# Altium footprint library ebf_f407 motor dev board_PCB封装_AD格式.PcbLib: 52 footprints (part 1 of 4)
Each footprint in its own frame and in the unit in brackets; x right, y up, seen from the top. Pads: shape width x height; smd on the part's side, far side on the other; paste and mask are expansions set on the pad; w line width, h text height; cw(c..) or ccw(c..) is an arc to the next point about the centre after c.
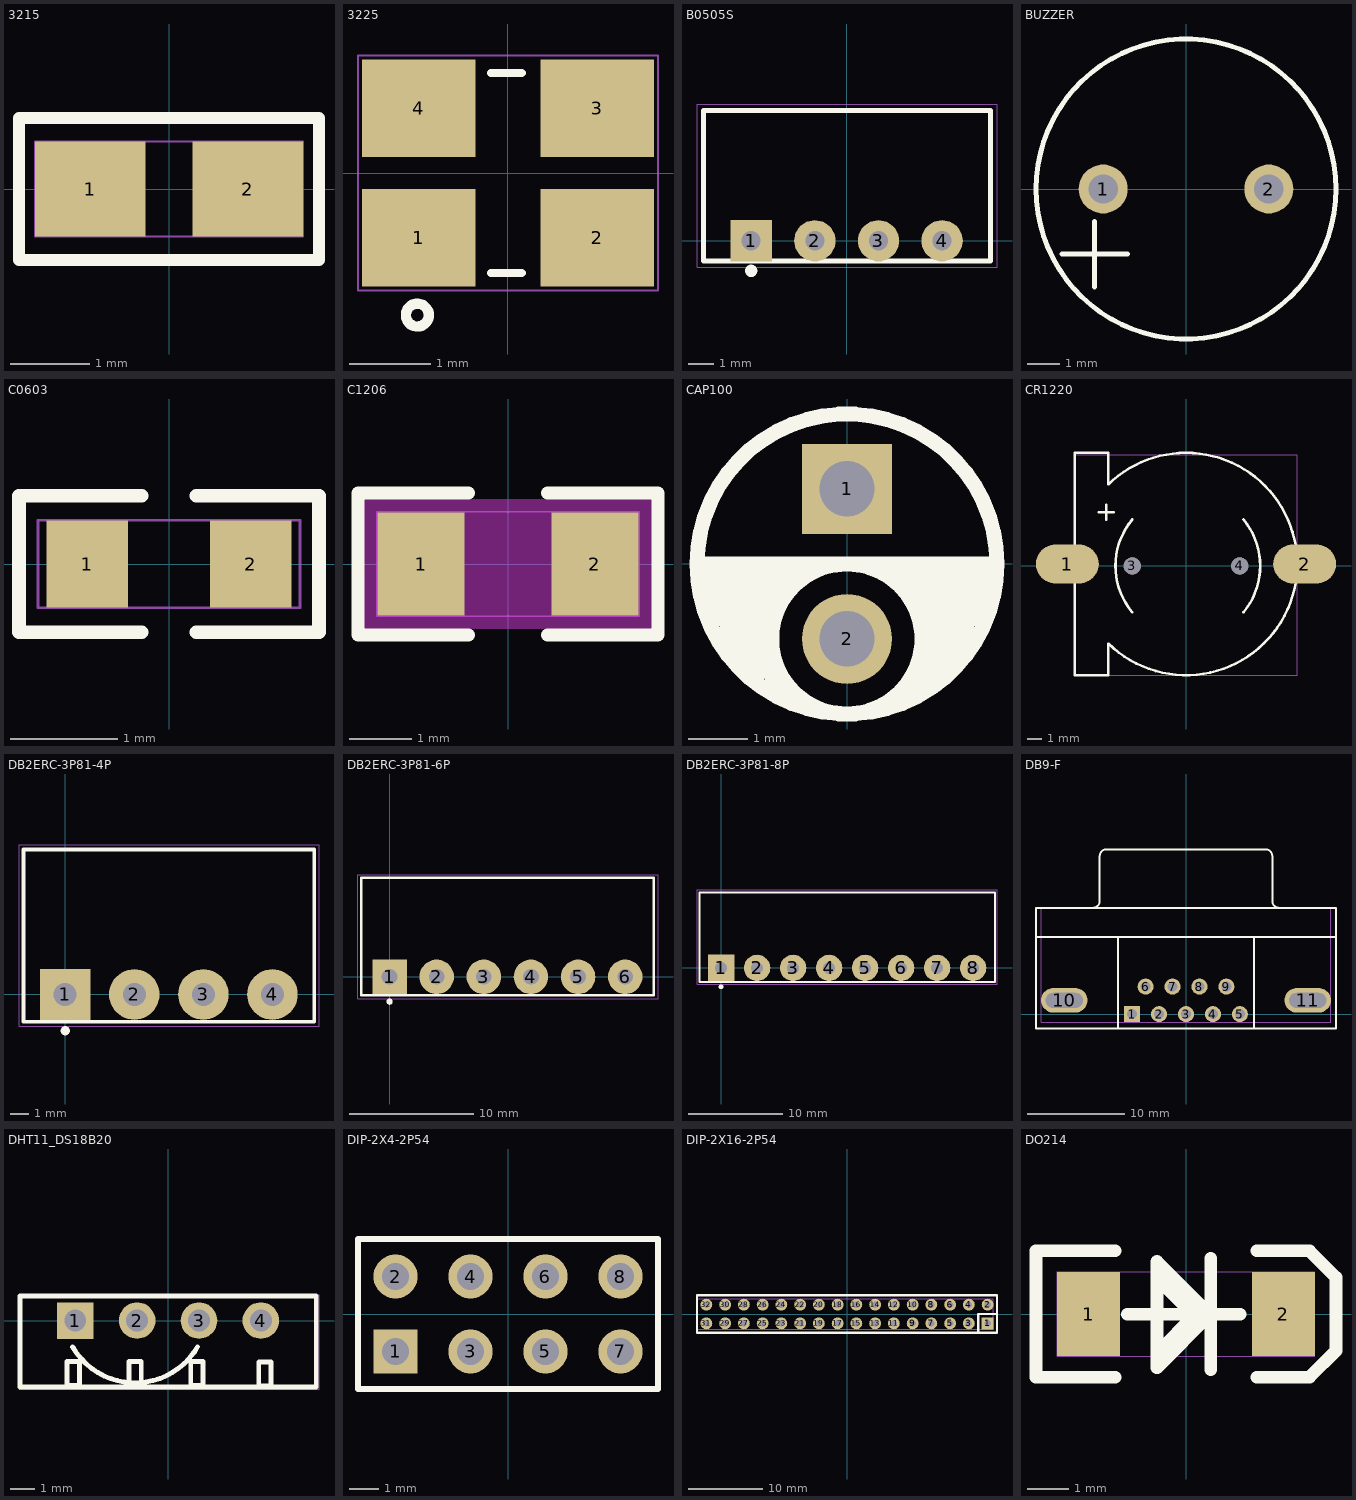
[diagram p0: the footprints below, top view; thin cyan lines are the x and y axes]

## 3215 [mm]
pads (2):
  rect 1.4x1.2 smd mask+0.05: 1(-1,0) 2(1,0)
Top Overlay:
  lines w0.15: -1.9,-0.9 -1.9,0.9 1.9,0.9 1.9,-0.9 -1.9,-0.9
Top Assembly:
  text "Y2" at 0.989,0.635 h1.27
Mechanical 20:
  lines w0.025: -1.7,-0.6 -1.7,0.6 1.7,0.6 1.7,-0.6 -1.7,-0.6

## 3225 [mil]
pads (4):
  rect 55.12x47.24 smd mask+1.97: 1(-43.3,-31.5) 2(43.31,-31.5) 3(43.31,31.49) 4(-43.3,31.49)
Top Overlay:
  circle w5: c-44,-69 r5.57
  lines w3.94: -8.3,-48.51 6.7,-48.51 ; -8.3,48.51 6.7,48.51
Top Assembly:
  text "Y5" at -38.93,-25 h50
Mechanical 20:
  lines w1: -72.83,-57.09 72.84,-57.09 72.84,57.08 -72.83,57.08 -72.83,-57.09

## B0505S [mm]
pads (4):
  rect 1.651x1.651 / inner round 1.651 / far side rect 1.651x1.651 hole 0.762: 1(-3.81,0)
  round 1.65 hole 0.76: 2(-1.27,0) 3(1.27,0) 4(3.81,0)
Top Overlay:
  circle w0.25: c-3.81,-1.2 r0.12
  circle w0.25: c-3.81,-1.2 r0.12
  lines w0.025: -5.72,-0.8 5.75,-0.8 5.75,5.2 -5.72,5.2 -5.72,-0.8
  lines w0.2: -5.72,-0.8 5.75,-0.8 5.75,5.2 -5.72,5.2 -5.72,-0.8
Top Assembly:
  text "U15" at -1.488,-0.635 h1.27
Mechanical 20:
  lines w0.025: -5.97,-1.05 6,-1.05 6,5.45 -5.97,5.45 -5.97,-1.05

## BUZZER [mil]
pads (2):
  round 59.06 hole 35.43 mask+2: 1(-100,0) 2(100,0)
Top Overlay:
  circle w6: c0,0 r181.1
  lines w6: -149.61,-78.74 -70.87,-78.74 ; -110.24,-118.11 -110.24,-39.37
Top Assembly:
  text "PZ1" at -50.47,-25 h50
Mechanical 20:
  circle w1: c0,0 r181.1

## C0603 [mil]
pads (2):
  rect 30x32 smd mask+2.5: 1(-30,0) 2(30,0)
Top Overlay:
  lines w5: -10,-25 -55,-25 -55,25 -10,25 ; 10,-25 55,-25 55,25 10,25
Top Assembly:
  text "C99" at 62.61,25 h50
Mechanical 20:
  lines w1: -48,-16 -48,16 48,16 48,-16 -48,-16

## C1206 [mil]
pads (2):
  rect 55x65 smd mask+2.5: 1(-55,0) 2(55,0)
Top Layer keep-out:
  region: -91,-41 -91,41 91,41 91,-41
Top Overlay:
  lines w8: -25,-45 -95,-45 -95,45 -25,45 ; 25,-45 95,-45 95,45 25,45
Top Assembly:
  text "C66" at -61.3,-25 h50
Mechanical 20:
  lines w1: -83,-33 -83,33 83,33 83,-33 -83,-33

## CAP100 [mil]
pads (2):
  rect 60x60 hole 37 mask+2: 1(0,50)
  round 60 hole 37 mask+2: 2(0,-50)
Top Overlay:
  circle w10: c0,0 r100
  lines w10: -100,0 100,0 ; -90,-40 -90,0 ; -80,-60 -80,-5 ; -70,-70 -70,-5 ; -60,-75 -60,-5 ; -50,-85 -50,0 ; -45,-85 -45,-80 ; -40,-20 -40,0 ; -30,-10 -30,0 ; 35,-10 35,-5 ; 40,-20 40,-5 ; 45,-85 45,-80 ; 50,-85 50,-5 ; 60,-80 60,-5 ; 70,-70 70,-5 ; 80,-60 80,-5 ; 90,-40 90,-5 ; 0,-100 ccw(c0,-50) 0,0 ccw(c-0.26,-50) 0,-100
Top Assembly:
  text "C6" at 40.35,25 h50
Mechanical 20:
  circle w1: c0,0 r100

## CR1220 [mil]
pads (4):
  oval 169.29x106.3 smd mask+1.97: 1(-320,5) 2(320,5)
  round 46 hole 46 unplated mask+2: 3(-145,0) 4(145,0)
Top Overlay:
  lines w7: -235,145 -195,145 ; -215,125 -215,165 ; -209.62,-209.61 -210,-295 -300,-295 -300,5 -300,305 -210,305 -209.62,219.61 ; -209.52,-209.7 ccw(c0,5) 298.19,-27.92 ; -209.52,219.71 cw(c0,5.01) 0,305 cw(c0,5) 298.19,37.92 ; -145.23,-124.72 cw(c5,0) -145.01,124.99 ; 155.01,-124.99 ccw(c5,0) 155.01,124.98
Top Assembly:
  text "CN1" at -54.4,-25 h50
Mechanical 20:
  lines w1: -300,-295 -300,300 300,300 300,-295 -300,-295

## DB2ERC-3P81-4P [mil]
pads (4):
  rect 109.84x109.84 hole 50: 1(0,0)
  round 109.84 hole 50: 2(150,0) 3(300,0) 4(450,0)
Top Overlay:
  circle w9.84: c0,-78.74 r5.12
  lines w7.87: -90.55,-59.06 -90.55,314.96 540.55,314.96 540.55,-59.06 -90.55,-59.06
Top Assembly:
  text "J39" at 56.06,25 h50
Mechanical 20:
  lines w1: -100.39,-68.9 -100.39,324.8 551.18,324.8 551.18,-68.9 -100.39,-68.9

## DB2ERC-3P81-6P [mil]
pads (6):
  rect 109.84x109.84 hole 50: 1(0,0)
  round 109.84 hole 50: 2(150,0) 3(300,0) 4(450,0) 5(600,0) 6(750,0)
Top Overlay:
  circle w9.84: c0,-78.74 r5.12
  lines w7.87: -90.55,-59.06 -90.55,314.96 840.55,314.96 840.55,-59.06 -90.55,-59.06
Top Assembly:
  text "J42" at -57.25,-25 h50
Mechanical 20:
  lines w1: -100.39,-68.9 -100.39,324.8 854.33,324.8 854.33,-68.9 -100.39,-68.9

## DB2ERC-3P81-8P [mil]
pads (8):
  rect 109.84x109.84 hole 50: 1(0,0)
  round 109.84 hole 50: 2(150,0) 3(300,0) 4(450,0) 5(600,0) 6(750,0) 7(900,0) 8(1050,0)
Top Overlay:
  circle w9.84: c0,-78.74 r5.12
  lines w7.87: -90.55,-59.06 -90.55,314.96 1140.55,314.96 1140.55,-59.06 -90.55,-59.06
Top Assembly:
  text "J43" at -57.25,-25 h50
Mechanical 20:
  lines w1: -100.39,-68.9 -100.39,324.8 1149.61,324.8 1149.61,-68.9 -100.39,-68.9

## DB9-F [mil]
pads (11):
  rect 65x65 hole 40 mask+2: 1(-218.11,0)
  round 65 hole 40 mask+2: 2(-109.06,0) 3(0,0) 4(109.06,0) 5(218.11,0) 6(-163.58,111.81) 7(-54.53,111.81) 8(54.53,111.81) 9(163.58,111.81)
  oval 188x100 hole 60 slot 150 at 0 deg mask+2: 10(-491.93,55.91) 11(491.93,55.9)
Top Overlay:
  lines w7.87: -606.3,311.81 606.3,311.81 ; -376.38,430.12 ccw(c-376.38,457.48) -349.02,457.48 -348.82,638.78 cw(c-321.46,638.78) -321.46,666.14 321.46,666.14 cw(c321.46,638.78) 348.82,638.78 349.02,457.48 ccw(c376.38,457.48) 376.38,430.12 ; -275.59,-58.27 -275.59,311.81 ; 275.59,-58.27 275.59,311.81 ; -606.3,-58.27 -606.3,429.92 606.3,429.92 606.3,-58.27 -606.3,-58.27
Top Assembly:
  text "CON1" at -79.27,-25 h50
Mechanical 20:
  lines w1: -585.63,-32.5 585.63,-32.5 585.63,429.92 -585.63,429.92 -585.63,-32.5

## DHT11_DS18B20 [mil]
pads (4):
  rect 59.06x59.06 / inner round 59.06 / far side rect 59.06x59.06 hole 35.43 mask+1.97: 1(-150,0)
  round 59.06 hole 35.43 mask+1.97: 2(-50,0) 3(50,0) 4(150,0)
Top Overlay:
  lines w8: -154.29,-42.52 ccw(c-53.36,15.75) 47.67,-42.34 ; -239.37,-107.5 -239.37,40 239.57,40 239.57,-107.5 -239.37,-107.5 ; -163.37,-104.87 -163.37,-66.13 -143.37,-66.13 -143.37,-104.87 -163.37,-104.87 ; -63.37,-104.87 -63.37,-66.13 -43.37,-66.13 -43.37,-104.87 -63.37,-104.87 ; 36.63,-104.87 36.63,-66.13 56.63,-66.13 56.63,-104.87 36.63,-104.87 ; 146.63,-105.87 146.63,-67.13 166.63,-67.13 166.63,-105.87 146.63,-105.87
Top Assembly:
  text "J13" at -53.33,-25 h50
Mechanical 20:
  lines w1: -241,-111 -241,42 244,42 244,-111 -241,-111

## DIP-2X4-2P54 [mil]
pads (8):
  rect 59.06x59.06 hole 35.43 mask+2: 1(-150,-50)
  round 59.06 hole 35.43 mask+2: 2(-150,50) 3(-50,-50) 4(-50,50) 5(50,-50) 6(50,50) 7(150,-50) 8(150,50)
Top Overlay:
  lines w8.66: -189.37,100 -200,100 ; -200,100 200,100 200,-100 -200,-100 -200,100
Top Assembly:
  text "J44" at 58.44,25 h50
Mechanical 20:
  lines w1: -200,-100 -200,100 200,100 200,-100 -200,-100

## DIP-2X16-2P54 [mil]
pads (32):
  rect 62.99x62.99 hole 35.43 mask+2: 1(750,-50)
  round 62.99 hole 35.43 mask+2: 2(750,50) 3(650,-50) 4(650,50) 5(550,-50) 6(550,50) 7(450,-50) 8(450,50) 9(350,-50) 10(350,50) 11(250,-50) 12(250,50) 13(150,-50) 14(150,50) 15(50,-50) 16(50,50) 17(-50,-50) 18(-50,50) 19(-150,-50) 20(-150,50) 21(-250,-50) 22(-250,50) 23(-350,-50) 24(-350,50) 25(-450,-50) 26(-450,50) 27(-550,-50) 28(-550,50) 29(-650,-50) 30(-650,50) 31(-750,-50) 32(-750,50)
Top Overlay:
  lines w12: 700,-100 700,0 800,0 ; -800,-100 800,-100 800,100 -800,100 -800,-100
Top Assembly:
  text "CN2" at -65.11,-25 h50
Mechanical 20:
  lines w1: -800,-81 781,-81 781,81 -800,81 -800,-81

## DO214 [mil]
pads (2):
  rect 60x80 smd mask+2: 1(-92.5,0) 2(92.5,0)
Top Overlay:
  lines w1: -27.58,-25.06 -27.58,22.87 -1.5,22.87 -1.5,-25.06 -27.58,-25.06
  lines w12: -67.5,-60 -142.5,-60 -142.5,60 -67.5,60 ; -55.58,-0.13 51.42,-0.13 ; -27.58,33.87 7.79,-1.51 -25.84,-35.13 ; 23.42,-53.13 23.42,52.87 ; 67.5,-60 117.42,-60 142.5,-34.92 142.5,34.87 117.37,60 67.5,60 ; -27.58,-51.13 -27.58,49.87 23.42,-1.13 23.42,-0.13 -27.58,-51.13
Top Assembly:
  text "D5" at 38.93,25 h50
Mechanical 20:
  lines w1: -122.5,-40 122.5,-40 122.5,40 -122.5,40 -122.5,-40